# Altium footprint library Spiritfarer.PcbLib: 17 footprints (part 1 of 2)
Each footprint in its own frame and in the unit in brackets; x right, y up, seen from the top. Pads: shape width x height; smd on the part's side, far side on the other; paste and mask are expansions set on the pad; w line width, h text height; cw(c..) or ccw(c..) is an arc to the next point about the centre after c.
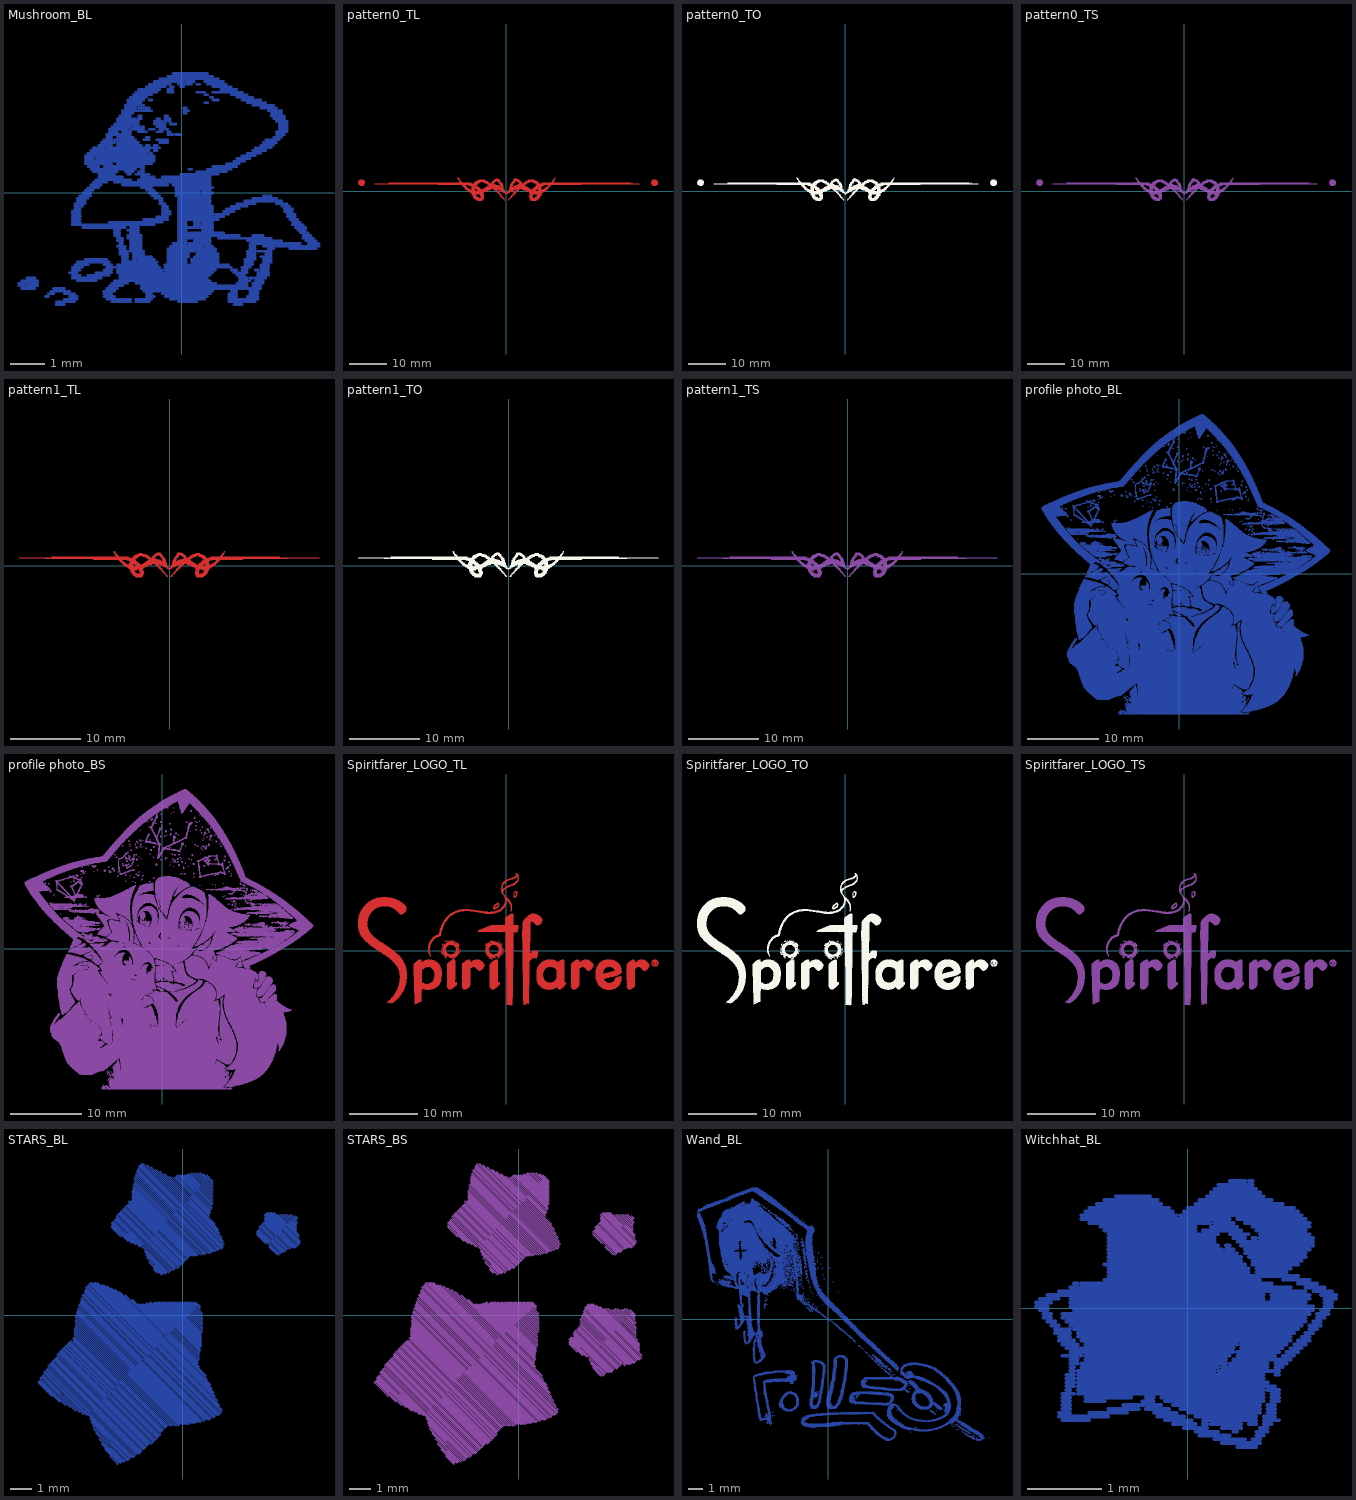
[diagram p0: the footprints below, top view; thin cyan lines are the x and y axes]

## Mushroom_BL [mm]
Bottom Layer:
  lines w0.076: -4.674,-2.667 -4.521,-2.667 ; -4.674,-2.591 -4.445,-2.591 ; -4.597,-2.743 -4.216,-2.743 ; -4.597,-2.515 -4.14,-2.515 ; -4.445,-2.667 -4.14,-2.667 ; -4.445,-2.438 -4.216,-2.438 ; -4.369,-2.591 -4.14,-2.591 ; -3.912,-2.972 -3.835,-2.972 ; -3.835,-2.896 -3.683,-2.896 ; -3.759,-2.819 -3.226,-2.819 ; -3.683,-2.743 -3.378,-2.743 ; -3.607,-3.2 -3.378,-3.2 ; -3.607,-3.124 -3.073,-3.124 ; -3.378,-3.048 -2.997,-3.048 ; -3.378,-2.896 -3.073,-2.896 ; -3.226,-2.972 -2.997,-2.972 ; -3.226,-2.286 -2.997,-2.286 ; -3.15,-2.438 -2.311,-2.438 ; -3.15,-2.362 -2.921,-2.362 ; -3.15,-2.21 -2.921,-2.21 ; -3.15,-2.134 -2.845,-2.134 ; -3.15,-0.914 -0.787,-0.914 ; -3.15,-0.838 -2.921,-0.838 ; -3.15,-0.762 -2.921,-0.762 ; -3.15,-0.686 -2.921,-0.686 ; -3.15,-0.61 -2.921,-0.61 ; -3.15,-0.533 -2.921,-0.533 ; -3.073,-2.057 -2.692,-2.057 ; -3.073,-0.457 -2.921,-0.457 ; -3.073,-0.381 -2.845,-0.381 ; -3.073,-0.305 -2.769,-0.305 ; -2.997,-2.515 -2.464,-2.515 ; -2.997,-1.981 -2.083,-1.981 ; -2.997,-0.229 -2.769,-0.229 ; -2.997,-0.152 -2.692,-0.152 ; -2.921,-0.076 -2.616,-0.076 ; -2.845,-0.991 -1.626,-0.991 ; -2.845,0 -2.616,0 ; -2.769,-1.905 -2.159,-1.905 ; -2.769,0.076 -2.54,0.076 ; -2.769,0.838 -2.007,0.838 ; -2.769,0.914 -0.787,0.914 ; -2.769,0.991 -2.54,0.991 ; -2.769,1.067 -0.787,1.067 ; -2.692,-2.362 -2.083,-2.362 ; -2.692,0.152 -2.388,0.152 ; -2.692,0.762 -2.388,0.762 ; -2.692,1.143 -1.016,1.143 ; -2.616,0.229 -2.311,0.229 ; -2.616,0.686 -1.321,0.686 ; -2.616,1.219 -0.94,1.219 ; -2.54,0.305 -2.159,0.305 ; -2.54,0.61 -1.854,0.61 ; -2.54,1.295 -2.235,1.295 ; -2.464,-2.286 -2.007,-2.286 ; -2.464,0.381 -1.473,0.381 ; -2.464,0.991 -0.787,0.991 ; -2.388,0.457 -1.702,0.457 ; -2.388,0.533 -1.93,0.533 ; -2.388,1.372 -2.007,1.372 ; -2.311,1.448 -1.93,1.448 ; -2.235,-2.972 -1.93,-2.972 ; -2.235,-2.896 -2.007,-2.896 ; -2.235,-2.819 -1.93,-2.819 ; -2.235,-2.21 -2.007,-2.21 ; -2.235,-2.057 -2.007,-2.057 ; -2.235,0.762 -1.092,0.762 ; -2.235,1.524 -2.007,1.524 ; -2.159,-3.048 -1.473,-3.048 ; -2.159,-2.743 -1.854,-2.743 ; -2.159,-2.134 -1.93,-2.134 ; -2.159,1.295 -0.635,1.295 ; -2.159,1.6 -2.007,1.6 ; -2.159,1.676 -1.473,1.676 ; -2.083,-2.667 -1.702,-2.667 ; -2.083,-0.838 -0.559,-0.838 ; -2.083,1.753 -1.854,1.753 ; -2.083,1.829 -1.549,1.829 ; -2.007,-3.124 -1.473,-3.124 ; -2.007,-2.591 -1.549,-2.591 ; -2.007,1.905 -1.473,1.905 ; -1.93,-2.515 0.813,-2.515 ; -1.93,-1.219 -1.778,-1.219 ; -1.93,-1.143 -1.778,-1.143 ; -1.93,-1.067 -1.778,-1.067 ; -1.93,0.305 0.813,0.305 ; -1.93,1.524 -1.854,1.524 ; -1.93,1.981 -1.245,1.981 ; -1.854,-2.286 0.889,-2.286 ; -1.854,-2.21 -0.559,-2.21 ; -1.854,-2.134 -0.635,-2.134 ; -1.854,-2.057 -0.711,-2.057 ; -1.854,-1.524 -1.626,-1.524 ; -1.854,-1.372 -1.702,-1.372 ; -1.854,-1.295 -1.702,-1.295 ; -1.854,0.838 -0.864,0.838 ; -1.854,1.372 -1.168,1.372 ; -1.854,1.448 -1.245,1.448 ; -1.854,1.6 -1.397,1.6 ; -1.854,2.057 -1.245,2.057 ; -1.854,2.134 -1.321,2.134 ; -1.778,-2.438 0.737,-2.438 ; -1.778,-2.362 0.813,-2.362 ; -1.778,-1.753 -1.549,-1.753 ; -1.778,-1.676 -1.549,-1.676 ; -1.778,-1.6 -1.626,-1.6 ; -1.778,-1.448 -1.702,-1.448 ; -1.778,1.524 -1.321,1.524 ; -1.778,2.21 -1.473,2.21 ; -1.702,-1.981 -0.711,-1.981 ; -1.702,-1.905 -1.549,-1.905 ; -1.702,-1.829 -1.549,-1.829 ; -1.702,0.229 -0.406,0.229 ; -1.702,1.753 -1.473,1.753 ; -1.702,2.286 -1.397,2.286 ; -1.702,2.362 -1.245,2.362 ; -1.626,0.61 -1.397,0.61 ; -1.626,2.438 -1.321,2.438 ; -1.626,2.515 -1.245,2.515 ; -1.549,-1.295 -1.168,-1.295 ; -1.549,-1.219 -1.168,-1.219 ; -1.549,-1.067 -1.245,-1.067 ; -1.549,0.533 -1.473,0.533 ; -1.549,2.591 -1.168,2.591 ; -1.549,2.667 -1.092,2.667 ; -1.473,-1.676 -1.092,-1.676 ; -1.473,-1.6 -1.168,-1.6 ; -1.473,-1.524 -1.168,-1.524 ; -1.473,-1.448 -1.168,-1.448 ; -1.473,-1.372 -1.168,-1.372 ; -1.473,-1.143 -1.245,-1.143 ; -1.473,-0.991 -1.245,-0.991 ; -1.473,1.829 -1.092,1.829 ; -1.473,2.743 -1.016,2.743 ; -1.397,-1.905 -1.321,-1.905 ; -1.397,-1.829 -0.864,-1.829 ; -1.397,-1.753 -1.092,-1.753 ; -1.397,1.905 -1.092,1.905 ; -1.397,2.819 -0.864,2.819 ; -1.321,-3.124 -0.94,-3.124 ; -1.321,-3.048 -0.864,-3.048 ; -1.321,-2.591 0.965,-2.591 ; -1.321,0.533 -0.94,0.533 ; -1.321,2.896 -0.711,2.896 ; -1.245,-1.905 -0.787,-1.905 ; -1.245,0.381 0.813,0.381 ; -1.245,0.61 -1.092,0.61 ; -1.245,1.753 -1.016,1.753 ; -1.245,2.134 -1.168,2.134 ; -1.245,2.21 -1.168,2.21 ; -1.245,2.438 -1.168,2.438 ; -1.245,2.972 -0.635,2.972 ; -1.168,-2.743 1.803,-2.743 ; -1.168,-2.667 1.88,-2.667 ; -1.168,0.152 -0.864,0.152 ; -1.168,0.457 -0.94,0.457 ; -1.168,0.686 -1.092,0.686 ; -1.168,2.362 -0.864,2.362 ; -1.168,2.515 -1.092,2.515 ; -1.092,-2.819 0.889,-2.819 ; -1.092,-0.762 -0.406,-0.762 ; -1.092,1.524 -0.94,1.524 ; -1.092,2.438 -0.94,2.438 ; -1.016,-2.972 -0.787,-2.972 ; -1.016,-2.896 -0.864,-2.896 ; -1.016,0.076 -0.787,0.076 ; -1.016,1.372 -0.94,1.372 ; -1.016,1.6 -0.94,1.6 ; -1.016,3.048 -0.483,3.048 ; -0.94,0 -0.711,0 ; -0.94,1.143 -0.864,1.143 ; -0.94,1.829 -0.787,1.829 ; -0.94,2.667 -0.864,2.667 ; -0.94,3.124 -0.33,3.124 ; -0.864,-0.076 -0.635,-0.076 ; -0.864,0.457 -0.787,0.457 ; -0.787,-0.152 -0.559,-0.152 ; -0.787,1.219 -0.711,1.219 ; -0.787,1.372 -0.711,1.372 ; -0.787,1.981 -0.483,1.981 ; -0.787,2.057 -0.559,2.057 ; -0.787,3.2 0.051,3.2 ; -0.711,-0.686 -0.406,-0.686 ; -0.711,1.524 -0.406,1.524 ; -0.711,1.753 -0.559,1.753 ; -0.711,1.905 -0.483,1.905 ; -0.711,2.134 -0.635,2.134 ; -0.635,-0.305 -0.483,-0.305 ; -0.635,-0.229 -0.559,-0.229 ; -0.635,1.448 -0.406,1.448 ; -0.635,1.829 -0.406,1.829 ; -0.635,3.277 1.041,3.277 ; -0.559,-2.896 0.813,-2.896 ; -0.559,-0.61 -0.33,-0.61 ; -0.559,-0.533 -0.33,-0.533 ; -0.559,-0.457 -0.406,-0.457 ; -0.559,-0.381 -0.406,-0.381 ; -0.559,0.457 0.813,0.457 ; -0.483,-2.972 0.737,-2.972 ; -0.483,-2.21 0.965,-2.21 ; -0.483,-2.134 1.422,-2.134 ; -0.483,-2.057 0.203,-2.057 ; -0.483,2.057 -0.33,2.057 ; -0.483,2.134 -0.33,2.134 ; -0.483,2.21 -0.406,2.21 ; -0.406,-1.981 0.127,-1.981 ; -0.406,-1.905 0.127,-1.905 ; -0.406,-1.829 0.203,-1.829 ; -0.406,-1.753 0.203,-1.753 ; -0.406,-1.676 0.356,-1.676 ; -0.406,-1.6 0.965,-1.6 ; -0.406,1.676 -0.254,1.676 ; -0.406,1.753 -0.33,1.753 ; -0.406,2.896 -0.254,2.896 ; -0.406,2.972 -0.254,2.972 ; -0.406,3.353 0.889,3.353 ; -0.33,-3.048 0.66,-3.048 ; -0.33,-1.524 0.584,-1.524 ; -0.33,1.981 -0.178,1.981 ; -0.33,3.048 -0.254,3.048 ; -0.254,-1.448 0.127,-1.448 ; -0.254,0.229 0.813,0.229 ; -0.254,3.429 0.737,3.429 ; -0.178,-0.076 0.813,-0.076 ; -0.178,0 0.508,0 ; -0.178,0.076 0.508,0.076 ; -0.178,0.152 0.889,0.152 ; -0.178,1.676 -0.025,1.676 ; -0.102,-3.124 0.432,-3.124 ; -0.102,-1.372 0.127,-1.372 ; -0.102,-1.295 0.279,-1.295 ; -0.102,-1.219 1.651,-1.219 ; -0.102,-1.143 0.203,-1.143 ; -0.102,-1.067 0.127,-1.067 ; -0.102,-0.991 0.889,-0.991 ; -0.102,-0.914 0.127,-0.914 ; -0.102,-0.838 0.127,-0.838 ; -0.102,-0.762 1.041,-0.762 ; -0.102,-0.686 1.194,-0.686 ; -0.102,-0.61 0.889,-0.61 ; -0.102,-0.533 0.889,-0.533 ; -0.102,-0.457 0.889,-0.457 ; -0.102,-0.381 0.889,-0.381 ; -0.102,-0.305 0.813,-0.305 ; -0.102,-0.229 0.813,-0.229 ; -0.102,-0.152 0.813,-0.152 ; -0.102,3.124 0.279,3.124 ; -0.025,0.533 1.041,0.533 ; -0.025,3.048 0.051,3.048 ; 0.051,2.286 0.127,2.286 ; 0.051,2.362 0.203,2.362 ; 0.051,2.438 0.127,2.438 ; 0.127,3.2 0.356,3.2 ; 0.203,-1.448 0.813,-1.448 ; 0.203,0.686 0.279,0.686 ; 0.279,-2.057 1.346,-2.057 ; 0.279,-1.981 1.041,-1.981 ; 0.279,-1.905 1.041,-1.905 ; 0.279,-1.143 1.194,-1.143 ; 0.356,-1.829 1.041,-1.829 ; 0.356,-1.372 0.813,-1.372 ; 0.356,-1.295 0.813,-1.295 ; 0.356,-0.914 0.508,-0.914 ; 0.356,-0.838 0.508,-0.838 ; 0.432,-1.753 1.041,-1.753 ; 0.432,-1.676 0.965,-1.676 ; 0.432,0.61 1.27,0.61 ; 0.432,2.896 0.66,2.896 ; 0.432,3.124 0.508,3.124 ; 0.584,-1.067 0.889,-1.067 ; 0.584,-0.914 0.889,-0.914 ; 0.584,-0.838 0.889,-0.838 ; 0.584,0 0.889,0 ; 0.584,0.076 0.813,0.076 ; 0.66,-1.524 0.889,-1.524 ; 0.66,2.591 0.737,2.591 ; 0.66,2.819 0.737,2.819 ; 0.66,3.2 1.194,3.2 ; 0.737,0.686 1.422,0.686 ; 0.737,3.124 1.27,3.124 ; 0.813,2.743 0.889,2.743 ; 0.889,0.762 1.575,0.762 ; 0.889,2.667 1.041,2.667 ; 0.889,2.896 1.727,2.896 ; 0.889,3.048 1.422,3.048 ; 0.965,-0.61 1.346,-0.61 ; 1.041,-1.295 2.565,-1.295 ; 1.118,2.972 1.575,2.972 ; 1.194,-0.533 1.499,-0.533 ; 1.27,-0.457 1.651,-0.457 ; 1.27,0.838 1.651,0.838 ; 1.346,-3.124 2.108,-3.124 ; 1.346,-3.048 2.184,-3.048 ; 1.346,-2.972 1.575,-2.972 ; 1.346,-2.896 1.575,-2.896 ; 1.422,-2.819 1.575,-2.819 ; 1.422,-2.21 1.575,-2.21 ; 1.422,-0.381 1.88,-0.381 ; 1.422,2.819 1.88,2.819 ; 1.499,-3.2 1.727,-3.2 ; 1.499,-2.286 1.88,-2.286 ; 1.499,0.914 1.803,0.914 ; 1.575,-2.591 1.88,-2.591 ; 1.575,-2.362 1.803,-2.362 ; 1.575,-0.305 2.108,-0.305 ; 1.575,0.991 1.956,0.991 ; 1.575,2.743 2.032,2.743 ; 1.651,-2.515 1.956,-2.515 ; 1.651,-2.438 1.88,-2.438 ; 1.727,-2.21 1.88,-2.21 ; 1.727,-2.134 1.956,-2.134 ; 1.727,1.067 2.108,1.067 ; 1.727,2.667 2.261,2.667 ; 1.803,-2.057 2.032,-2.057 ; 1.803,-1.981 2.032,-1.981 ; 1.803,-1.905 2.108,-1.905 ; 1.803,-0.229 2.87,-0.229 ; 1.88,-2.972 2.184,-2.972 ; 1.88,-2.743 2.261,-2.743 ; 1.88,-1.829 2.108,-1.829 ; 1.88,-1.753 2.108,-1.753 ; 1.88,-1.676 2.108,-1.676 ; 1.88,-1.372 2.87,-1.372 ; 1.88,1.143 2.261,1.143 ; 1.88,2.591 2.413,2.591 ; 1.956,-2.896 2.184,-2.896 ; 1.956,-2.819 2.184,-2.819 ; 1.956,-2.438 2.032,-2.438 ; 1.956,-1.6 2.108,-1.6 ; 1.956,-1.524 2.108,-1.524 ; 1.956,-1.448 3.404,-1.448 ; 2.032,-2.667 2.261,-2.667 ; 2.032,-2.591 2.337,-2.591 ; 2.032,-1.219 2.337,-1.219 ; 2.032,-0.152 2.718,-0.152 ; 2.032,1.219 2.413,1.219 ; 2.032,2.515 2.642,2.515 ; 2.108,-2.515 2.337,-2.515 ; 2.108,-2.438 2.413,-2.438 ; 2.108,-2.21 2.184,-2.21 ; 2.108,1.295 2.565,1.295 ; 2.184,-2.362 2.489,-2.362 ; 2.184,-2.286 2.489,-2.286 ; 2.184,-1.676 2.565,-1.676 ; 2.261,-2.21 2.489,-2.21 ; 2.261,-2.134 2.489,-2.134 ; 2.261,-2.057 2.489,-2.057 ; 2.261,-1.829 2.565,-1.829 ; 2.261,1.372 2.642,1.372 ; 2.261,2.438 2.718,2.438 ; 2.337,-1.981 2.565,-1.981 ; 2.337,-1.905 2.565,-1.905 ; 2.337,-1.524 3.937,-1.524 ; 2.337,-0.076 2.413,-0.076 ; 2.337,1.448 2.718,1.448 ; 2.413,-1.753 2.565,-1.753 ; 2.413,1.524 2.794,1.524 ; 2.489,-1.6 2.642,-1.6 ; 2.489,-0.076 2.565,-0.076 ; 2.489,2.362 2.87,2.362 ; 2.565,2.21 2.946,2.21 ; 2.565,2.286 2.87,2.286 ; 2.642,1.6 2.87,1.6 ; 2.642,2.134 2.946,2.134 ; 2.718,-0.305 3.023,-0.305 ; 2.718,1.676 2.946,1.676 ; 2.718,1.753 3.023,1.753 ; 2.718,2.057 3.023,2.057 ; 2.794,1.829 3.023,1.829 ; 2.794,1.905 3.023,1.905 ; 2.794,1.981 3.023,1.981 ; 2.87,-0.381 3.099,-0.381 ; 2.946,-0.533 3.175,-0.533 ; 2.946,-0.457 3.175,-0.457 ; 3.023,-0.686 3.251,-0.686 ; 3.023,-0.61 3.251,-0.61 ; 3.099,-1.6 3.861,-1.6 ; 3.099,-0.762 3.327,-0.762 ; 3.175,-0.914 3.48,-0.914 ; 3.175,-0.838 3.404,-0.838 ; 3.251,-0.991 3.556,-0.991 ; 3.327,-1.067 3.556,-1.067 ; 3.404,-1.143 3.632,-1.143 ; 3.48,-1.295 3.785,-1.295 ; 3.48,-1.219 3.708,-1.219 ; 3.556,-1.372 3.861,-1.372 ; 3.632,-1.448 3.937,-1.448

## pattern0_TL [mm]
Top Layer:
  lines w0.203: -40.03,2.21 -38.202,2.21 ; -40.03,2.413 -38.202,2.413 ; -39.827,1.803 -38.405,1.803 ; -39.827,2.007 -38.405,2.007 ; -39.827,2.616 -38.202,2.616 ; -39.827,2.819 -38.405,2.819 ; -39.624,3.023 -38.608,3.023 ; -39.421,1.6 -38.608,1.6 ; -35.56,2.007 -9.144,2.007 ; -31.699,2.21 -9.55,2.21 ; -18.491,1.803 -7.925,1.803 ; -13.208,3.632 -13.005,3.632 ; -13.005,3.226 -12.802,3.226 ; -13.005,3.429 -12.802,3.429 ; -12.802,2.819 -12.395,2.819 ; -12.802,3.023 -12.598,3.023 ; -12.598,2.413 -11.989,2.413 ; -12.598,2.616 -12.192,2.616 ; -11.989,1.6 -11.176,1.6 ; -11.786,1.397 -10.973,1.397 ; -11.582,1.194 -10.77,1.194 ; -11.379,0.991 -10.566,0.991 ; -11.176,0.787 -10.363,0.787 ; -10.973,0.584 -9.957,0.584 ; -10.77,0.381 -8.534,0.381 ; -10.363,0.178 -8.534,0.178 ; -10.16,-0.025 -5.69,-0.025 ; -10.16,1.6 -8.128,1.6 ; -9.754,-0.229 -6.096,-0.229 ; -9.55,1.397 -7.925,1.397 ; -9.347,-0.838 -8.331,-0.838 ; -9.347,-0.635 -6.299,-0.635 ; -9.347,-0.432 -6.299,-0.432 ; -9.347,0.584 -8.534,0.584 ; -9.347,0.787 -8.534,0.787 ; -9.347,0.991 -7.315,0.991 ; -9.347,1.194 -7.722,1.194 ; -9.144,-1.245 -8.128,-1.245 ; -9.144,-1.041 -8.331,-1.041 ; -8.941,-1.651 -7.518,-1.651 ; -8.941,-1.448 -7.925,-1.448 ; -8.941,2.007 -7.722,2.007 ; -8.738,-1.854 -6.096,-1.854 ; -8.738,2.21 -7.518,2.21 ; -8.534,-2.057 -6.299,-2.057 ; -8.534,2.413 -7.112,2.413 ; -8.331,0.787 -7.112,0.787 ; -8.331,2.616 -5.08,2.616 ; -8.128,-2.261 -6.502,-2.261 ; -8.128,0.584 -6.909,0.584 ; -7.925,0.381 -4.674,0.381 ; -7.925,2.819 -5.486,2.819 ; -7.722,-2.464 -6.706,-2.464 ; -7.722,0.178 -5.08,0.178 ; -7.518,3.023 -5.893,3.023 ; -7.112,-1.041 -6.096,-1.041 ; -7.112,-0.838 -6.096,-0.838 ; -6.909,-1.651 -6.096,-1.651 ; -6.909,-1.448 -6.096,-1.448 ; -6.909,-1.245 -6.096,-1.245 ; -6.502,0.584 -4.267,0.584 ; -6.096,0.787 -0.813,0.787 ; -6.096,2.413 -4.877,2.413 ; -5.69,0.991 -0.813,0.991 ; -5.69,2.21 -4.47,2.21 ; -5.486,1.194 -1.626,1.194 ; -5.283,2.007 -3.454,2.007 ; -5.08,1.397 -1.829,1.397 ; -4.877,1.803 -3.048,1.803 ; -4.674,1.6 -2.235,1.6 ; -4.064,2.21 -3.454,2.21 ; -3.861,2.413 -3.251,2.413 ; -3.861,2.616 -2.845,2.616 ; -3.658,2.819 -2.642,2.819 ; -3.454,0.584 -2.642,0.584 ; -3.251,0.381 -2.438,0.381 ; -3.251,3.023 -1.829,3.023 ; -3.048,3.226 -2.032,3.226 ; -2.845,0.178 -2.438,0.178 ; -2.642,-0.025 -2.235,-0.025 ; -2.642,3.429 -2.438,3.429 ; -2.438,-0.229 -2.032,-0.229 ; -2.438,0.584 -0.61,0.584 ; -2.438,2.819 -1.829,2.819 ; -2.235,-0.432 -1.829,-0.432 ; -2.235,2.616 -1.626,2.616 ; -2.032,-0.635 -1.626,-0.635 ; -2.032,0.381 -0.61,0.381 ; -2.032,2.21 -1.219,2.21 ; -2.032,2.413 -1.422,2.413 ; -1.829,-0.838 -1.422,-0.838 ; -1.829,2.007 -1.016,2.007 ; -1.626,-1.245 -1.219,-1.245 ; -1.626,-1.041 -1.422,-1.041 ; -1.626,1.6 -1.016,1.6 ; -1.626,1.803 -1.016,1.803 ; -1.422,-1.448 -1.016,-1.448 ; -1.422,0.178 -0.406,0.178 ; -1.422,1.194 -0.813,1.194 ; -1.422,1.397 -0.813,1.397 ; -1.219,-1.651 -0.813,-1.651 ; -1.016,-1.854 -0.813,-1.854 ; -1.016,-0.025 -0.406,-0.025 ; -0.813,-2.057 -0.61,-2.057 ; -0.813,-0.229 -0.203,-0.229 ; -0.61,-2.261 -0.406,-2.261 ; -0.406,-0.432 0.406,-0.432 ; -0.203,-0.635 0.203,-0.635 ; 0.203,-0.229 0.813,-0.229 ; 0.406,-2.261 0.61,-2.261 ; 0.406,-0.025 1.219,-0.025 ; 0.61,-2.057 0.813,-2.057 ; 0.61,0.178 1.626,0.178 ; 0.61,0.381 2.032,0.381 ; 0.61,0.584 2.438,0.584 ; 0.813,-1.854 1.016,-1.854 ; 0.813,0.787 6.096,0.787 ; 0.813,0.991 5.893,0.991 ; 0.813,1.194 5.486,1.194 ; 1.016,-1.651 1.219,-1.651 ; 1.016,-1.448 1.422,-1.448 ; 1.016,1.397 1.422,1.397 ; 1.016,1.6 1.626,1.6 ; 1.016,1.803 1.626,1.803 ; 1.219,-1.245 1.626,-1.245 ; 1.219,2.007 1.829,2.007 ; 1.219,2.21 2.032,2.21 ; 1.422,-1.041 1.829,-1.041 ; 1.422,2.413 2.235,2.413 ; 1.626,-0.838 2.032,-0.838 ; 1.626,-0.635 2.235,-0.635 ; 1.626,2.616 2.235,2.616 ; 1.829,-0.432 2.438,-0.432 ; 1.829,2.819 2.438,2.819 ; 1.829,3.023 3.454,3.023 ; 2.032,-0.229 2.642,-0.229 ; 2.032,1.397 5.08,1.397 ; 2.032,3.226 3.048,3.226 ; 2.235,-0.025 2.845,-0.025 ; 2.235,3.429 2.642,3.429 ; 2.438,0.178 3.048,0.178 ; 2.438,1.6 4.877,1.6 ; 2.642,0.381 3.251,0.381 ; 2.642,2.819 3.658,2.819 ; 2.845,0.584 3.454,0.584 ; 3.048,1.803 5.08,1.803 ; 3.048,2.616 3.861,2.616 ; 3.251,2.413 4.064,2.413 ; 3.454,2.007 5.283,2.007 ; 3.454,2.21 4.064,2.21 ; 4.267,0.584 6.502,0.584 ; 4.47,2.21 5.69,2.21 ; 4.674,0.381 7.925,0.381 ; 4.877,2.413 6.299,2.413 ; 5.08,2.616 8.331,2.616 ; 5.283,0.178 7.722,0.178 ; 5.486,2.819 7.925,2.819 ; 5.69,-0.025 10.16,-0.025 ; 5.893,3.023 7.518,3.023 ; 6.096,-1.651 7.112,-1.651 ; 6.096,-1.448 6.909,-1.448 ; 6.096,-1.245 6.909,-1.245 ; 6.096,-0.229 9.754,-0.229 ; 6.299,-2.057 8.534,-2.057 ; 6.299,-1.854 8.738,-1.854 ; 6.299,-1.041 7.112,-1.041 ; 6.299,-0.838 7.112,-0.838 ; 6.299,-0.635 9.347,-0.635 ; 6.299,-0.432 9.55,-0.432 ; 6.502,-2.261 8.331,-2.261 ; 6.706,-2.464 7.925,-2.464 ; 7.112,0.584 8.128,0.584 ; 7.112,0.787 9.347,0.787 ; 7.112,2.413 8.534,2.413 ; 7.518,0.991 9.347,0.991 ; 7.518,2.21 8.738,2.21 ; 7.722,-1.651 8.941,-1.651 ; 7.722,1.194 9.347,1.194 ; 7.925,-1.448 8.941,-1.448 ; 7.925,1.397 9.55,1.397 ; 7.925,2.007 8.941,2.007 ; 8.128,-1.245 9.144,-1.245 ; 8.128,1.6 10.16,1.6 ; 8.128,1.803 20.117,1.803 ; 8.331,-1.041 9.347,-1.041 ; 8.331,-0.838 9.347,-0.838 ; 8.534,0.178 10.566,0.178 ; 8.534,0.381 10.77,0.381 ; 8.534,0.584 9.347,0.584 ; 9.144,2.007 35.763,2.007 ; 9.55,2.21 33.325,2.21 ; 9.957,0.584 10.973,0.584 ; 10.363,0.787 11.176,0.787 ; 10.566,0.991 11.379,0.991 ; 10.973,1.194 11.582,1.194 ; 11.176,1.397 11.786,1.397 ; 11.379,1.6 11.989,1.6 ; 11.989,2.413 12.598,2.413 ; 12.395,2.616 12.598,2.616 ; 12.395,2.819 12.802,2.819 ; 12.598,3.023 13.005,3.023 ; 12.802,3.226 13.005,3.226 ; 13.005,3.429 13.208,3.429 ; 13.005,3.632 13.208,3.632 ; 33.731,2.21 33.934,2.21 ; 39.014,2.21 40.843,2.21 ; 39.014,2.413 40.843,2.413 ; 39.218,1.803 40.64,1.803 ; 39.218,2.007 40.843,2.007 ; 39.218,2.616 40.843,2.616 ; 39.218,2.819 40.64,2.819 ; 39.421,1.6 40.437,1.6 ; 39.421,3.023 40.437,3.023

## pattern0_TO [mm]
Top Overlay:
  drawing of 213 lines, arcs and shapes, not listed

## pattern0_TS [mm]
Top Solder:
  drawing of 213 lines, arcs and shapes, not listed

## pattern1_TL [mm]
Top Layer:
  lines w0.102: -21.488,1.143 -5.639,1.143 ; -17.729,1.041 -17.12,1.041 ; -16.916,1.041 -4.826,1.041 ; -16.815,1.245 -5.944,1.245 ; -10.922,0.94 -4.928,0.94 ; -7.976,1.956 -7.772,1.956 ; -7.976,2.057 -7.874,2.057 ; -7.874,1.753 -7.671,1.753 ; -7.874,1.854 -7.772,1.854 ; -7.772,1.549 -7.468,1.549 ; -7.772,1.651 -7.569,1.651 ; -7.671,1.448 -7.366,1.448 ; -7.569,1.346 -7.366,1.346 ; -7.264,0.838 -6.858,0.838 ; -7.163,0.737 -6.756,0.737 ; -7.061,0.635 -6.655,0.635 ; -6.96,0.533 -6.553,0.533 ; -6.858,0.432 -6.35,0.432 ; -6.756,0.33 -6.248,0.33 ; -6.655,0.229 -6.045,0.229 ; -6.553,0.127 -5.842,0.127 ; -6.452,0.025 -5.232,0.025 ; -6.248,-0.076 -5.131,-0.076 ; -6.147,-0.178 -3.505,-0.178 ; -6.147,0.838 -4.928,0.838 ; -5.944,-0.279 -3.708,-0.279 ; -5.842,0.737 -4.826,0.737 ; -5.74,-0.381 -3.81,-0.381 ; -5.74,0.127 -5.232,0.127 ; -5.74,0.229 -5.232,0.229 ; -5.74,0.33 -4.318,0.33 ; -5.74,0.432 -4.42,0.432 ; -5.639,-0.686 -5.029,-0.686 ; -5.639,-0.584 -4.724,-0.584 ; -5.639,-0.483 -3.81,-0.483 ; -5.639,0.533 -4.623,0.533 ; -5.639,0.635 -4.724,0.635 ; -5.537,-0.889 -4.928,-0.889 ; -5.537,-0.787 -5.029,-0.787 ; -5.436,-1.092 -4.724,-1.092 ; -5.436,-0.991 -4.826,-0.991 ; -5.334,-1.194 -3.708,-1.194 ; -5.334,1.143 -4.623,1.143 ; -5.232,-1.295 -3.81,-1.295 ; -5.232,1.245 -4.521,1.245 ; -5.131,-1.397 -3.81,-1.397 ; -5.131,1.346 -4.318,1.346 ; -5.029,1.448 -3.099,1.448 ; -4.928,-1.499 -3.912,-1.499 ; -4.928,-0.076 -3.302,-0.076 ; -4.928,0.229 -4.216,0.229 ; -4.826,-1.6 -4.013,-1.6 ; -4.826,0.127 -2.896,0.127 ; -4.826,1.549 -3.302,1.549 ; -4.724,0.025 -3.099,0.025 ; -4.623,1.651 -3.505,1.651 ; -4.42,1.753 -3.81,1.753 ; -4.318,-0.787 -3.708,-0.787 ; -4.318,-0.686 -3.81,-0.686 ; -4.318,-0.584 -3.81,-0.584 ; -4.216,-1.092 -3.708,-1.092 ; -4.216,-0.991 -3.708,-0.991 ; -4.216,-0.889 -3.708,-0.889 ; -3.912,0.229 -2.591,0.229 ; -3.81,1.346 -2.997,1.346 ; -3.708,0.33 -0.457,0.33 ; -3.607,0.432 -0.457,0.432 ; -3.505,1.245 -2.794,1.245 ; -3.404,0.533 -0.559,0.533 ; -3.302,0.635 -1.067,0.635 ; -3.302,1.143 -2.692,1.143 ; -3.2,1.041 -2.083,1.041 ; -3.099,0.737 -1.27,0.737 ; -2.997,0.94 -1.778,0.94 ; -2.896,0.838 -1.473,0.838 ; -2.489,1.143 -2.184,1.143 ; -2.489,1.245 -2.083,1.245 ; -2.388,1.346 -1.981,1.346 ; -2.286,1.448 -1.778,1.448 ; -2.184,1.549 -1.676,1.549 ; -2.083,0.229 -1.676,0.229 ; -2.083,1.651 -1.168,1.651 ; -1.981,0.127 -1.575,0.127 ; -1.981,1.753 -1.27,1.753 ; -1.88,0.025 -1.575,0.025 ; -1.778,-0.076 -1.473,-0.076 ; -1.778,1.854 -1.372,1.854 ; -1.676,-0.178 -1.372,-0.178 ; -1.575,-0.279 -1.27,-0.279 ; -1.575,0.229 -0.457,0.229 ; -1.473,-0.381 -1.168,-0.381 ; -1.473,1.448 -1.067,1.448 ; -1.473,1.549 -1.067,1.549 ; -1.372,-0.483 -1.067,-0.483 ; -1.372,1.346 -0.965,1.346 ; -1.27,-0.584 -1.067,-0.584 ; -1.27,0.127 -0.457,0.127 ; -1.27,1.245 -0.864,1.245 ; -1.168,-0.686 -0.965,-0.686 ; -1.168,1.041 -0.66,1.041 ; -1.168,1.143 -0.762,1.143 ; -1.067,-0.787 -0.864,-0.787 ; -1.067,0.025 -0.356,0.025 ; -1.067,0.94 -0.66,0.94 ; -0.965,-0.889 -0.762,-0.889 ; -0.965,0.635 -0.559,0.635 ; -0.965,0.737 -0.559,0.737 ; -0.965,0.838 -0.66,0.838 ; -0.864,-0.991 -0.66,-0.991 ; -0.864,-0.076 -0.356,-0.076 ; -0.762,-1.092 -0.66,-1.092 ; -0.66,-1.194 -0.559,-1.194 ; -0.66,-0.178 -0.254,-0.178 ; -0.559,-1.397 -0.356,-1.397 ; -0.559,-1.295 -0.457,-1.295 ; -0.457,-1.499 -0.254,-1.499 ; -0.457,-0.279 -0.152,-0.279 ; -0.356,-0.381 0.254,-0.381 ; -0.152,-0.483 0.051,-0.483 ; 0.051,-0.279 0.356,-0.279 ; 0.152,-1.499 0.356,-1.499 ; 0.152,-0.178 0.559,-0.178 ; 0.254,-1.397 0.356,-1.397 ; 0.254,-0.076 0.762,-0.076 ; 0.254,0.025 0.965,0.025 ; 0.356,-1.295 0.457,-1.295 ; 0.356,0.127 1.168,0.127 ; 0.356,0.229 1.473,0.229 ; 0.356,0.33 3.607,0.33 ; 0.356,0.432 3.505,0.432 ; 0.457,-1.194 0.559,-1.194 ; 0.457,-1.092 0.66,-1.092 ; 0.457,0.533 3.302,0.533 ; 0.457,0.635 0.864,0.635 ; 0.457,0.737 0.864,0.737 ; 0.559,-0.991 0.762,-0.991 ; 0.559,0.838 0.864,0.838 ; 0.559,0.94 0.965,0.94 ; 0.559,1.041 0.965,1.041 ; 0.66,-0.889 0.864,-0.889 ; 0.66,1.143 1.067,1.143 ; 0.762,-0.787 0.965,-0.787 ; 0.762,1.245 1.168,1.245 ; 0.864,-0.686 1.067,-0.686 ; 0.864,-0.584 1.168,-0.584 ; 0.864,1.346 1.27,1.346 ; 0.965,-0.483 1.27,-0.483 ; 0.965,0.635 3.099,0.635 ; 0.965,1.448 1.27,1.448 ; 0.965,1.549 1.372,1.549 ; 1.067,-0.381 1.372,-0.381 ; 1.067,1.651 1.981,1.651 ; 1.067,1.753 1.88,1.753 ; 1.168,-0.279 1.473,-0.279 ; 1.168,0.737 2.997,0.737 ; 1.168,1.854 1.676,1.854 ; 1.27,-0.178 1.575,-0.178 ; 1.27,-0.076 1.676,-0.076 ; 1.372,0.025 1.778,0.025 ; 1.372,0.838 2.794,0.838 ; 1.473,0.127 1.88,0.127 ; 1.575,0.229 1.981,0.229 ; 1.575,1.549 2.083,1.549 ; 1.676,0.94 2.896,0.94 ; 1.676,1.448 2.184,1.448 ; 1.88,1.346 2.286,1.346 ; 1.981,1.041 3.099,1.041 ; 1.981,1.143 2.388,1.143 ; 1.981,1.245 2.388,1.245 ; 2.489,0.229 3.81,0.229 ; 2.591,1.143 3.2,1.143 ; 2.692,1.245 3.404,1.245 ; 2.794,0.127 4.724,0.127 ; 2.896,1.346 3.708,1.346 ; 2.997,0.025 4.623,0.025 ; 2.997,1.448 4.928,1.448 ; 3.2,-0.076 4.826,-0.076 ; 3.2,1.549 4.724,1.549 ; 3.404,-0.178 6.045,-0.178 ; 3.404,1.651 4.521,1.651 ; 3.607,-1.194 5.232,-1.194 ; 3.607,-1.092 4.115,-1.092 ; 3.607,-0.991 4.115,-0.991 ; 3.607,-0.889 4.115,-0.889 ; 3.607,-0.787 4.115,-0.787 ; 3.607,-0.279 5.842,-0.279 ; 3.708,-1.397 5.029,-1.397 ; 3.708,-1.295 5.131,-1.295 ; 3.708,-0.686 4.216,-0.686 ; 3.708,-0.584 4.216,-0.584 ; 3.708,-0.483 5.537,-0.483 ; 3.708,-0.381 5.639,-0.381 ; 3.708,1.753 4.318,1.753 ; 3.81,-1.499 4.826,-1.499 ; 3.912,-1.6 4.623,-1.6 ; 4.115,0.229 4.826,0.229 ; 4.216,0.33 5.537,0.33 ; 4.216,1.346 5.029,1.346 ; 4.318,0.432 5.537,0.432 ; 4.318,1.245 5.131,1.245 ; 4.521,0.533 5.537,0.533 ; 4.623,-1.092 5.334,-1.092 ; 4.623,0.635 5.537,0.635 ; 4.623,1.143 5.232,1.143 ; 4.724,-0.991 5.334,-0.991 ; 4.724,-0.584 5.537,-0.584 ; 4.724,0.737 5.74,0.737 ; 4.724,1.041 16.815,1.041 ; 4.826,-0.889 5.436,-0.889 ; 4.826,0.838 6.045,0.838 ; 4.826,0.94 10.414,0.94 ; 4.928,-0.787 5.436,-0.787 ; 4.928,-0.686 5.537,-0.686 ; 5.029,-0.076 6.147,-0.076 ; 5.029,0.127 5.639,0.127 ; 5.131,0.025 6.248,0.025 ; 5.131,0.229 5.537,0.229 ; 5.537,1.143 21.285,1.143 ; 5.74,0.127 6.452,0.127 ; 5.842,1.245 15.697,1.245 ; 5.944,0.229 6.553,0.229 ; 6.147,0.33 6.655,0.33 ; 6.248,0.432 6.756,0.432 ; 6.452,0.533 6.858,0.533 ; 6.553,0.635 6.96,0.635 ; 6.655,0.737 7.061,0.737 ; 6.756,0.838 7.163,0.838 ; 7.163,1.346 7.468,1.346 ; 7.366,1.448 7.569,1.448 ; 7.366,1.549 7.569,1.549 ; 7.468,1.651 7.671,1.651 ; 7.569,1.753 7.671,1.753 ; 7.671,1.854 7.772,1.854 ; 7.671,1.956 7.874,1.956 ; 7.772,2.057 7.874,2.057

## pattern1_TO [mm]
Top Overlay:
  drawing of 235 lines, arcs and shapes, not listed

## pattern1_TS [mm]
Top Solder:
  drawing of 235 lines, arcs and shapes, not listed

## profile photo_BL [mm]
Bottom Layer:
  drawing of 9955 lines, arcs and shapes, not listed

## profile photo_BS [mm]
Bottom Solder:
  drawing of 9955 lines, arcs and shapes, not listed

## Spiritfarer_LOGO_TL [mm]
Top Layer:
  drawing of 6418 lines, arcs and shapes, not listed

## Spiritfarer_LOGO_TO [mm]
Top Overlay:
  drawing of 6418 lines, arcs and shapes, not listed

## Spiritfarer_LOGO_TS [mm]
Top Solder:
  drawing of 6418 lines, arcs and shapes, not listed

## STARS_BL [mm]
Bottom Layer:
  lines w0.076: -6.872,-3.205 -6.226,-3.851 ; -6.818,-3.151 -5.848,-4.121 ; -6.764,-3.097 -5.579,-4.282 ; -6.764,-2.989 -5.364,-4.39 ; -6.711,-2.935 -5.094,-4.552 ; -6.657,-2.881 -4.932,-4.606 ; -6.603,-2.828 -4.717,-4.713 ; -6.603,-2.72 -4.555,-4.767 ; -6.549,-2.666 -2.454,-6.761 ; -6.495,-2.612 -2.346,-6.761 ; -6.441,-2.558 -2.292,-6.707 ; -6.387,-2.504 -2.238,-6.653 ; -6.387,-2.397 -2.185,-6.599 ; -6.333,-2.343 -2.077,-6.599 ; -6.28,-2.289 -2.023,-6.545 ; -6.226,-2.235 -1.969,-6.492 ; -6.172,-2.181 -1.915,-6.438 ; -6.118,-2.127 -1.861,-6.384 ; -6.064,-2.073 -1.807,-6.33 ; -6.01,-2.019 -1.753,-6.276 ; -5.956,-1.965 -1.7,-6.222 ; -5.956,-1.858 -1.646,-6.168 ; -5.902,-1.804 -1.592,-6.114 ; -5.848,-1.75 -1.484,-6.114 ; -5.795,-1.696 -1.43,-6.06 ; -5.741,-1.642 -1.376,-6.007 ; -5.687,-1.588 -1.322,-5.953 ; -5.633,-1.534 -1.269,-5.899 ; -5.579,-1.481 -1.215,-5.845 ; -5.525,-1.427 -1.161,-5.791 ; -5.471,-1.373 -1.107,-5.737 ; -5.417,-1.319 -1.053,-5.683 ; -5.364,-1.265 -1.053,-5.576 ; -5.31,-1.211 -0.999,-5.522 ; -5.202,-1.211 -0.945,-5.468 ; -5.202,-1.103 -0.891,-5.414 ; -5.148,-1.049 -0.837,-5.36 ; -5.148,-0.942 -0.784,-5.306 ; -5.148,-0.834 -0.73,-5.252 ; -5.148,-0.726 -0.622,-5.252 ; -5.148,-0.618 -0.514,-5.252 ; -5.094,-0.565 -0.406,-5.252 ; -5.094,-0.457 -0.299,-5.252 ; -5.094,-0.349 -0.191,-5.252 ; -5.094,-0.241 -0.137,-5.198 ; -5.094,-0.134 -0.029,-5.198 ; -5.094,-0.026 0.078,-5.198 ; -5.04,0.028 0.186,-5.198 ; -5.04,0.136 0.294,-5.198 ; -4.986,0.19 0.348,-5.144 ; -4.986,0.298 0.456,-5.144 ; -4.932,0.351 0.563,-5.144 ; -4.932,0.459 0.617,-5.091 ; -4.879,0.513 0.725,-5.091 ; -4.879,0.621 0.833,-5.091 ; -4.825,0.675 0.887,-5.037 ; -4.825,0.782 0.994,-5.037 ; -4.771,0.836 1.048,-4.983 ; -4.771,0.944 1.156,-4.983 ; -4.717,0.998 1.264,-4.983 ; -4.663,1.052 1.318,-4.929 ; -4.663,1.16 1.372,-4.875 ; -4.609,1.214 1.479,-4.875 ; -4.609,1.321 1.533,-4.821 ; -4.555,1.375 1.587,-4.767 ; -4.501,1.429 1.695,-4.767 ; -4.448,1.483 1.749,-4.713 ; -4.394,-4.929 -2.508,-6.815 ; -4.394,1.537 1.803,-4.66 ; -4.34,-5.091 -2.562,-6.869 ; -4.286,-5.252 -2.616,-6.923 ; -4.286,1.537 1.857,-4.606 ; -4.232,-5.414 -2.723,-6.923 ; -4.178,1.537 1.749,-4.39 ; -4.124,-5.629 -2.777,-6.976 ; -4.07,1.537 1.749,-4.282 ; -3.963,-5.899 -2.885,-6.976 ; -3.855,-6.114 -2.939,-7.03 ; -3.855,1.429 1.641,-4.067 ; -3.747,1.429 1.533,-3.851 ; -3.693,-6.384 -3.047,-7.03 ; -3.585,1.375 1.479,-3.69 ; -3.478,-6.707 -3.101,-7.084 ; -3.37,1.267 1.372,-3.474 ; -3.37,4.177 -2.939,3.746 ; -3.37,4.285 -2.616,3.53 ; -3.37,4.393 -2.4,3.423 ; -3.316,4.446 -2.238,3.369 ; -3.262,4.5 -2.023,3.261 ; -3.208,1.214 1.318,-3.313 ; -3.208,4.554 -0.676,2.022 ; -3.154,4.608 -0.622,2.076 ; -3.154,4.716 -0.568,2.13 ; -3.101,4.77 -0.46,2.13 ; -3.047,4.824 -0.406,2.183 ; -2.993,1.106 1.156,-3.043 ; -2.993,4.877 -0.353,2.237 ; -2.939,4.931 -0.245,2.237 ; -2.885,4.985 -0.191,2.291 ; -2.831,5.039 -0.137,2.345 ; -2.777,5.093 -0.083,2.399 ; -2.723,0.944 1.102,-2.881 ; -2.723,5.147 -0.029,2.453 ; -2.669,5.201 0.025,2.507 ; -2.616,5.255 0.078,2.561 ; -2.562,5.309 0.132,2.614 ; -2.562,5.416 0.186,2.668 ; -2.454,5.416 0.24,2.722 ; -2.4,0.729 0.779,-2.45 ; -2.4,5.47 0.294,2.776 ; -2.4,5.578 0.348,2.83 ; -2.4,5.686 0.456,2.83 ; -2.4,5.793 0.563,2.83 ; -2.4,5.901 0.671,2.83 ; -2.346,5.955 0.725,2.884 ; -2.346,6.063 0.833,2.884 ; -2.346,6.171 0.941,2.884 ; -2.292,6.225 1.048,2.884 ; -2.292,6.332 1.102,2.938 ; -2.292,6.44 1.21,2.938 ; -2.292,6.548 1.318,2.938 ; -2.238,6.602 1.372,2.992 ; -2.238,6.709 1.426,3.045 ; -2.185,6.763 1.533,3.046 ; -2.185,6.871 1.587,3.099 ; -2.131,6.925 1.695,3.099 ; -2.077,0.513 0.725,-2.289 ; -2.077,6.979 1.749,3.153 ; -2.077,7.087 1.857,3.153 ; -2.023,7.14 1.91,3.207 ; -1.969,0.513 0.725,-2.181 ; -1.969,7.194 1.91,3.315 ; -1.861,0.513 0.779,-2.127 ; -1.861,7.194 1.964,3.369 ; -1.807,3.046 -0.784,2.022 ; -1.753,0.513 0.779,-2.019 ; -1.753,2.884 -0.837,1.968 ; -1.7,0.567 0.779,-1.912 ; -1.7,2.722 -0.945,1.968 ; -1.7,7.14 1.91,3.53 ; -1.592,0.567 0.779,-1.804 ; -1.592,2.507 -0.999,1.914 ; -1.538,0.621 0.833,-1.75 ; -1.484,7.033 1.857,3.692 ; -1.376,0.567 0.833,-1.642 ; -1.376,2.183 -1.215,2.022 ; -1.322,0.621 0.833,-1.534 ; -1.269,6.925 1.749,3.908 ; -1.215,0.621 0.887,-1.481 ; -1.107,0.621 0.887,-1.373 ; -1.053,6.817 1.695,4.069 ; -0.999,0.621 0.887,-1.265 ; -0.891,0.621 0.887,-1.157 ; -0.837,6.709 1.533,4.339 ; -0.784,0.621 0.887,-1.049 ; -0.676,0.621 0.887,-0.942 ; -0.622,6.602 1.264,4.716 ; -0.568,0.621 0.887,-0.834 ; -0.46,0.621 0.941,-0.78 ; -0.46,6.548 1.264,4.824 ; -0.353,0.621 0.941,-0.672 ; -0.353,6.548 1.318,4.877 ; -0.299,6.602 1.318,4.985 ; -0.245,0.621 0.941,-0.565 ; -0.245,6.656 1.372,5.039 ; -0.137,0.621 0.941,-0.457 ; -0.137,6.656 1.372,5.147 ; -0.029,0.621 0.941,-0.349 ; -0.029,6.656 1.372,5.255 ; 0.078,0.621 0.941,-0.241 ; 0.078,6.656 1.426,5.309 ; 0.186,0.621 0.941,-0.134 ; 0.186,6.656 1.426,5.416 ; 0.24,6.709 1.426,5.524 ; 0.294,0.621 0.941,-0.026 ; 0.348,6.709 1.426,5.632 ; 0.402,0.621 0.941,0.082 ; 0.402,6.763 1.426,5.74 ; 0.51,0.621 0.833,0.298 ; 0.51,6.763 1.426,5.847 ; 0.617,0.621 0.833,0.405 ; 0.617,6.763 1.426,5.955 ; 0.725,6.763 1.426,6.063 ; 0.833,6.763 1.426,6.171 ; 0.994,6.709 1.426,6.278 ; 1.156,6.656 1.426,6.386 ; 1.803,-4.444 1.857,-4.498 ; 3.527,3.854 3.958,3.423 ; 3.527,3.961 4.605,2.884 ; 3.581,4.015 4.658,2.938 ; 3.635,4.069 4.712,2.992 ; 3.635,4.177 4.82,2.992 ; 3.689,4.231 4.874,3.046 ; 3.742,4.285 4.928,3.099 ; 3.796,4.339 4.982,3.153 ; 3.85,4.393 5.089,3.153 ; 3.904,4.446 5.143,3.207 ; 3.904,4.554 5.251,3.207 ; 3.904,4.662 5.359,3.207 ; 3.904,4.77 5.413,3.261 ; 3.958,4.824 5.467,3.315 ; 4.012,4.877 5.521,3.369 ; 4.12,3.261 4.497,2.884 ; 4.12,4.877 5.574,3.423 ; 4.227,4.877 5.574,3.53 ; 4.335,4.877 5.521,3.692 ; 4.551,4.77 5.521,3.8 ; 4.658,4.77 5.413,4.015 ; 4.766,4.77 5.413,4.123 ; 4.874,4.77 5.413,4.231 ; 4.982,4.77 5.413,4.339 ; 5.089,4.77 5.467,4.393 ; 5.197,4.77 5.413,4.554 ; 5.359,4.716 5.467,4.608

## STARS_BS [mm]
Bottom Solder:
  drawing of 261 lines, arcs and shapes, not listed

## Wand_BL [mm]
Bottom Layer:
  drawing of 8693 lines, arcs and shapes, not listed

## Witchhat_BL [mm]
Bottom Layer:
  lines w0.051: -2.032,0.025 -1.88,0.025 ; -2.032,0.076 -1.829,0.076 ; -1.981,-0.025 -1.88,-0.025 ; -1.981,0.127 -1.727,0.127 ; -1.93,-0.127 -1.829,-0.127 ; -1.93,-0.076 -1.829,-0.076 ; -1.88,-0.178 -1.778,-0.178 ; -1.88,0.178 1.016,0.178 ; -1.829,-0.229 -1.727,-0.229 ; -1.778,-0.33 -1.575,-0.33 ; -1.778,-0.279 -1.575,-0.279 ; -1.727,-1.448 -1.067,-1.448 ; -1.727,-1.397 -1.575,-1.397 ; -1.727,-0.432 -1.524,-0.432 ; -1.727,-0.381 -1.575,-0.381 ; -1.727,0.229 1.575,0.229 ; -1.676,-1.499 -1.321,-1.499 ; -1.676,-1.346 -1.575,-1.346 ; -1.676,-1.295 -1.575,-1.295 ; -1.676,-1.245 -1.575,-1.245 ; -1.676,-1.194 -1.575,-1.194 ; -1.676,-1.143 -1.524,-1.143 ; -1.676,-0.635 -1.422,-0.635 ; -1.676,-0.483 -1.473,-0.483 ; -1.676,-0.127 1.575,-0.127 ; -1.676,-0.076 1.626,-0.076 ; -1.626,-1.092 -1.575,-1.092 ; -1.626,-1.041 -1.524,-1.041 ; -1.626,-0.991 -1.524,-0.991 ; -1.626,-0.94 -1.524,-0.94 ; -1.626,-0.889 -1.524,-0.889 ; -1.626,-0.533 0.61,-0.533 ; -1.626,-0.178 1.575,-0.178 ; -1.575,-0.838 -1.524,-0.838 ; -1.575,-0.787 -1.524,-0.787 ; -1.575,-0.737 -1.473,-0.737 ; -1.575,-0.686 -1.473,-0.686 ; -1.575,-0.584 0.61,-0.584 ; -1.575,-0.229 1.524,-0.229 ; -1.575,0.025 1.676,0.025 ; -1.575,0.076 1.575,0.076 ; -1.575,0.127 1.016,0.127 ; -1.575,0.279 1.372,0.279 ; -1.524,-0.279 1.473,-0.279 ; -1.524,-0.025 1.676,-0.025 ; -1.524,0.33 -1.473,0.33 ; -1.473,-1.143 1.016,-1.143 ; -1.473,-1.092 1.016,-1.092 ; -1.473,-1.041 1.168,-1.041 ; -1.473,-0.991 1.067,-0.991 ; -1.473,-0.94 1.016,-0.94 ; -1.473,-0.889 1.016,-0.889 ; -1.473,-0.838 0.356,-0.838 ; -1.473,-0.381 1.372,-0.381 ; -1.473,-0.33 1.422,-0.33 ; -1.422,-0.787 0.406,-0.787 ; -1.422,-0.737 0.508,-0.737 ; -1.422,-0.432 1.372,-0.432 ; -1.422,0.33 1.118,0.33 ; -1.422,1.194 0.559,1.194 ; -1.422,1.245 -0.152,1.245 ; -1.372,-1.245 -1.118,-1.245 ; -1.372,-1.194 -0.762,-1.194 ; -1.372,-0.686 0.508,-0.686 ; -1.372,-0.635 0.559,-0.635 ; -1.372,-0.483 0.66,-0.483 ; -1.372,1.295 -0.203,1.295 ; -1.321,-1.397 -0.813,-1.397 ; -1.321,1.143 0.305,1.143 ; -1.321,1.346 -0.254,1.346 ; -1.219,1.397 -0.356,1.397 ; -1.168,1.092 0.102,1.092 ; -1.118,0.381 0.965,0.381 ; -1.118,0.584 0.762,0.584 ; -1.118,1.041 0.102,1.041 ; -1.118,1.448 -0.406,1.448 ; -1.067,-1.346 -0.66,-1.346 ; -1.067,0.432 1.473,0.432 ; -1.067,0.483 0.813,0.483 ; -1.067,0.533 0.813,0.533 ; -1.067,0.635 0.711,0.635 ; -1.067,0.686 0.711,0.686 ; -1.067,0.737 0.66,0.737 ; -1.067,0.787 0.457,0.787 ; -1.067,0.838 0.406,0.838 ; -1.067,0.889 0.356,0.889 ; -1.067,0.94 0.356,0.94 ; -1.067,0.991 0.406,0.991 ; -0.965,1.499 -0.508,1.499 ; -0.864,-1.295 -0.356,-1.295 ; -0.61,-1.245 -0.457,-1.245 ; -0.559,-1.346 -0.254,-1.346 ; -0.559,-1.194 -0.457,-1.194 ; -0.457,-1.397 -0.152,-1.397 ; -0.406,-1.448 -0.051,-1.448 ; -0.356,-1.194 1.016,-1.194 ; -0.305,-1.499 0.051,-1.499 ; -0.305,-1.245 1.016,-1.245 ; -0.203,-1.549 0.102,-1.549 ; -0.203,-1.295 0.965,-1.295 ; -0.102,-1.346 0.965,-1.346 ; -0.102,1.245 1.524,1.245 ; -0.051,-1.6 0.254,-1.6 ; -0.051,1.295 1.473,1.295 ; 0,-1.397 0.965,-1.397 ; 0,1.346 1.422,1.346 ; 0.102,-1.651 0.406,-1.651 ; 0.102,-1.448 0.914,-1.448 ; 0.102,1.397 1.27,1.397 ; 0.152,-1.702 0.559,-1.702 ; 0.152,1.448 1.118,1.448 ; 0.203,-1.549 0.254,-1.549 ; 0.203,-1.499 0.914,-1.499 ; 0.203,1.041 0.711,1.041 ; 0.254,1.499 1.016,1.499 ; 0.305,-1.549 0.711,-1.549 ; 0.305,1.092 0.66,1.092 ; 0.305,1.549 0.965,1.549 ; 0.356,-1.753 0.762,-1.753 ; 0.356,1.143 0.61,1.143 ; 0.356,1.6 0.914,1.6 ; 0.406,-0.838 1.219,-0.838 ; 0.406,1.651 0.864,1.651 ; 0.457,-1.803 0.965,-1.803 ; 0.457,-1.6 0.711,-1.6 ; 0.457,-0.787 1.067,-0.787 ; 0.508,0.787 0.61,0.787 ; 0.508,0.838 0.559,0.838 ; 0.559,-0.737 1.067,-0.737 ; 0.559,0.991 0.813,0.991 ; 0.559,1.702 0.762,1.702 ; 0.61,-1.651 0.66,-1.651 ; 0.61,-0.686 1.372,-0.686 ; 0.61,0.94 0.762,0.94 ; 0.66,-1.854 0.914,-1.854 ; 0.66,-0.635 1.168,-0.635 ; 0.66,-0.584 1.219,-0.584 ; 0.66,0.889 1.676,0.889 ; 0.66,1.194 1.575,1.194 ; 0.711,-0.533 1.27,-0.533 ; 0.711,-0.483 1.321,-0.483 ; 0.711,0.838 1.676,0.838 ; 0.762,0.737 1.575,0.737 ; 0.762,0.787 1.626,0.787 ; 0.762,1.143 1.626,1.143 ; 0.813,-1.549 0.914,-1.549 ; 0.813,0.686 1.575,0.686 ; 0.813,1.702 0.864,1.702 ; 0.864,-1.753 0.965,-1.753 ; 0.864,0.584 1.473,0.584 ; 0.864,0.635 1.524,0.635 ; 0.864,0.94 0.914,0.94 ; 0.864,1.092 1.626,1.092 ; 0.914,-1.702 1.016,-1.702 ; 0.914,-1.651 1.067,-1.651 ; 0.914,0.483 1.321,0.483 ; 0.914,0.533 1.372,0.533 ; 0.914,1.041 1.575,1.041 ; 0.965,-1.6 1.067,-1.6 ; 0.965,0.94 1.676,0.94 ; 0.965,0.991 1.626,0.991 ; 1.016,-1.549 1.118,-1.549 ; 1.016,-1.499 1.219,-1.499 ; 1.016,-1.448 1.168,-1.448 ; 1.067,-1.397 1.168,-1.397 ; 1.067,-1.346 1.168,-1.346 ; 1.067,-1.295 1.168,-1.295 ; 1.067,-1.092 1.219,-1.092 ; 1.118,-1.245 1.219,-1.245 ; 1.118,-1.194 1.219,-1.194 ; 1.118,-1.143 1.219,-1.143 ; 1.118,0.127 1.626,0.127 ; 1.118,0.178 1.626,0.178 ; 1.168,-0.889 1.219,-0.889 ; 1.168,-0.787 1.27,-0.787 ; 1.168,-0.737 1.321,-0.737 ; 1.27,-0.635 1.422,-0.635 ; 1.27,0.381 1.626,0.381 ; 1.321,-0.584 1.473,-0.584 ; 1.372,-0.533 1.524,-0.533 ; 1.422,-0.483 1.575,-0.483 ; 1.473,-0.432 1.626,-0.432 ; 1.473,0.33 1.727,0.33 ; 1.524,-0.381 1.626,-0.381 ; 1.575,-0.33 1.676,-0.33 ; 1.575,0.279 1.829,0.279 ; 1.626,-0.279 1.727,-0.279 ; 1.626,-0.229 1.778,-0.229 ; 1.676,-0.178 1.778,-0.178 ; 1.676,0.229 1.93,0.229 ; 1.727,-0.127 1.829,-0.127 ; 1.727,-0.076 1.88,-0.076 ; 1.778,-0.025 1.88,-0.025 ; 1.778,0.178 1.981,0.178 ; 1.829,0.025 1.93,0.025 ; 1.829,0.076 1.93,0.076 ; 1.829,0.127 1.981,0.127